# Altium footprint library LS10-13BxxR3P.PcbLib: 1 footprints
Each footprint in its own frame and in the unit in brackets; x right, y up, seen from the top. Pads: shape width x height; smd on the part's side, far side on the other; paste and mask are expansions set on the pad; w line width, h text height; cw(c..) or ccw(c..) is an arc to the next point about the centre after c.
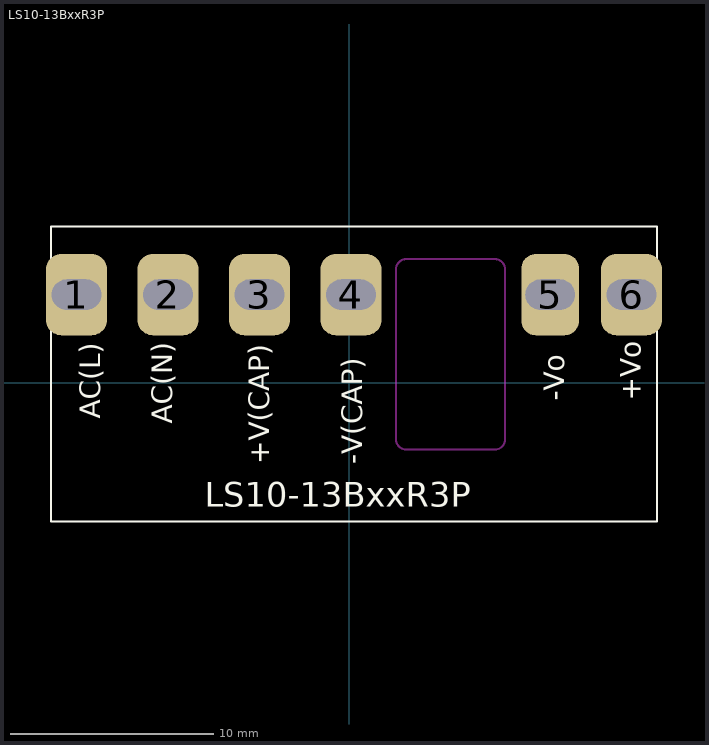
[diagram p0: the footprint, top view; thin cyan lines are the x and y axes]

## LS10-13BxxR3P [mm]
pads (6):
  rrect50% 3x4 hole 1.5 slot 2.44 at 0 deg: 1(-13.415,4.338) 2(-8.915,4.338) 4(0.085,4.338) 6(13.885,4.338)
  rrect50% 3x4 hole 1.5 slot 2.444 at 0 deg: 3(-4.415,4.338)
  rrect50% 2.84x4 hole 1.5 slot 2.44 at 0 deg: 5(9.885,4.338)
Top Overlay:
  lines w0.102: -14.665,-6.812 -14.665,7.688 15.135,7.688 15.135,-6.812 -14.665,-6.812
  text "LS10-13BxxR3P" at -7.112,-6.096 h1.2
  text "AC(N)" at -8.704,-2.013 h1
  text "AC(L)" at -12.252,-1.752 h1
  text "+V(CAP)" at -3.939,-4.003 h1
  text "-V(CAP)" at 0.642,-4.003 h1
  text "-Vo" at 10.567,-0.885 h1
  text "+Vo" at 14.328,-0.885 h1
Keep-Out Layer:
  lines w0.1: 2.305,-2.782 ccw(c2.805,-2.782) 2.805,-3.282 7.165,-3.282 ccw(c7.165,-2.782) 7.665,-2.782 ; 2.305,5.588 cw(c2.805,5.588) 2.805,6.088 ; 7.665,-2.772 7.665,5.588 ccw(c7.165,5.588) 7.165,6.088 2.805,6.088 ; 2.805,6.088 2.805,6.088
  lines w0.102: 2.305,-2.772 2.305,5.588